# EAGLE library part M22-25203XX (library Harwin)
M22-25203xx - 2.0mm pitch, 3x2 position male pin header Datasheet: https://cdn.harwin.com/pdfs/M22-252.pdf
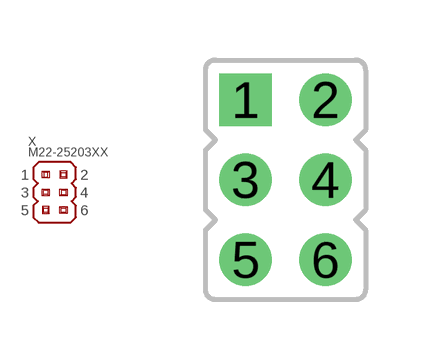
[diagram p1: symbol with the pads of M22-25203XX; footprint M22-25203XX]

Designator prefix X

## M22-25203XX (PARTNO: M22-2520305)  [M22-25203XX]
1  1
2  2
3  3
4  4
5  5
6  6

## Footprint M22-25203XX (pad centres in mm)
M22-252XXXX - 2.00mm pitch DIL vertical pin header assembly Datasheet: https://cdn.harwin.com/pdfs/M22-252.pdf
drill 0.8 square: 1 -1,2
drill 0.8 round: 2 1,2; 3 -1,0; 4 1,0; 5 -1,-2; 6 1,-2